# Altium footprint library ESC.PcbLib: 51 footprints (part 2 of 4)
Each footprint in its own frame and in the unit in brackets; x right, y up, seen from the top. Pads: shape width x height; smd on the part's side, far side on the other; paste and mask are expansions set on the pad; w line width, h text height; cw(c..) or ccw(c..) is an arc to the next point about the centre after c.
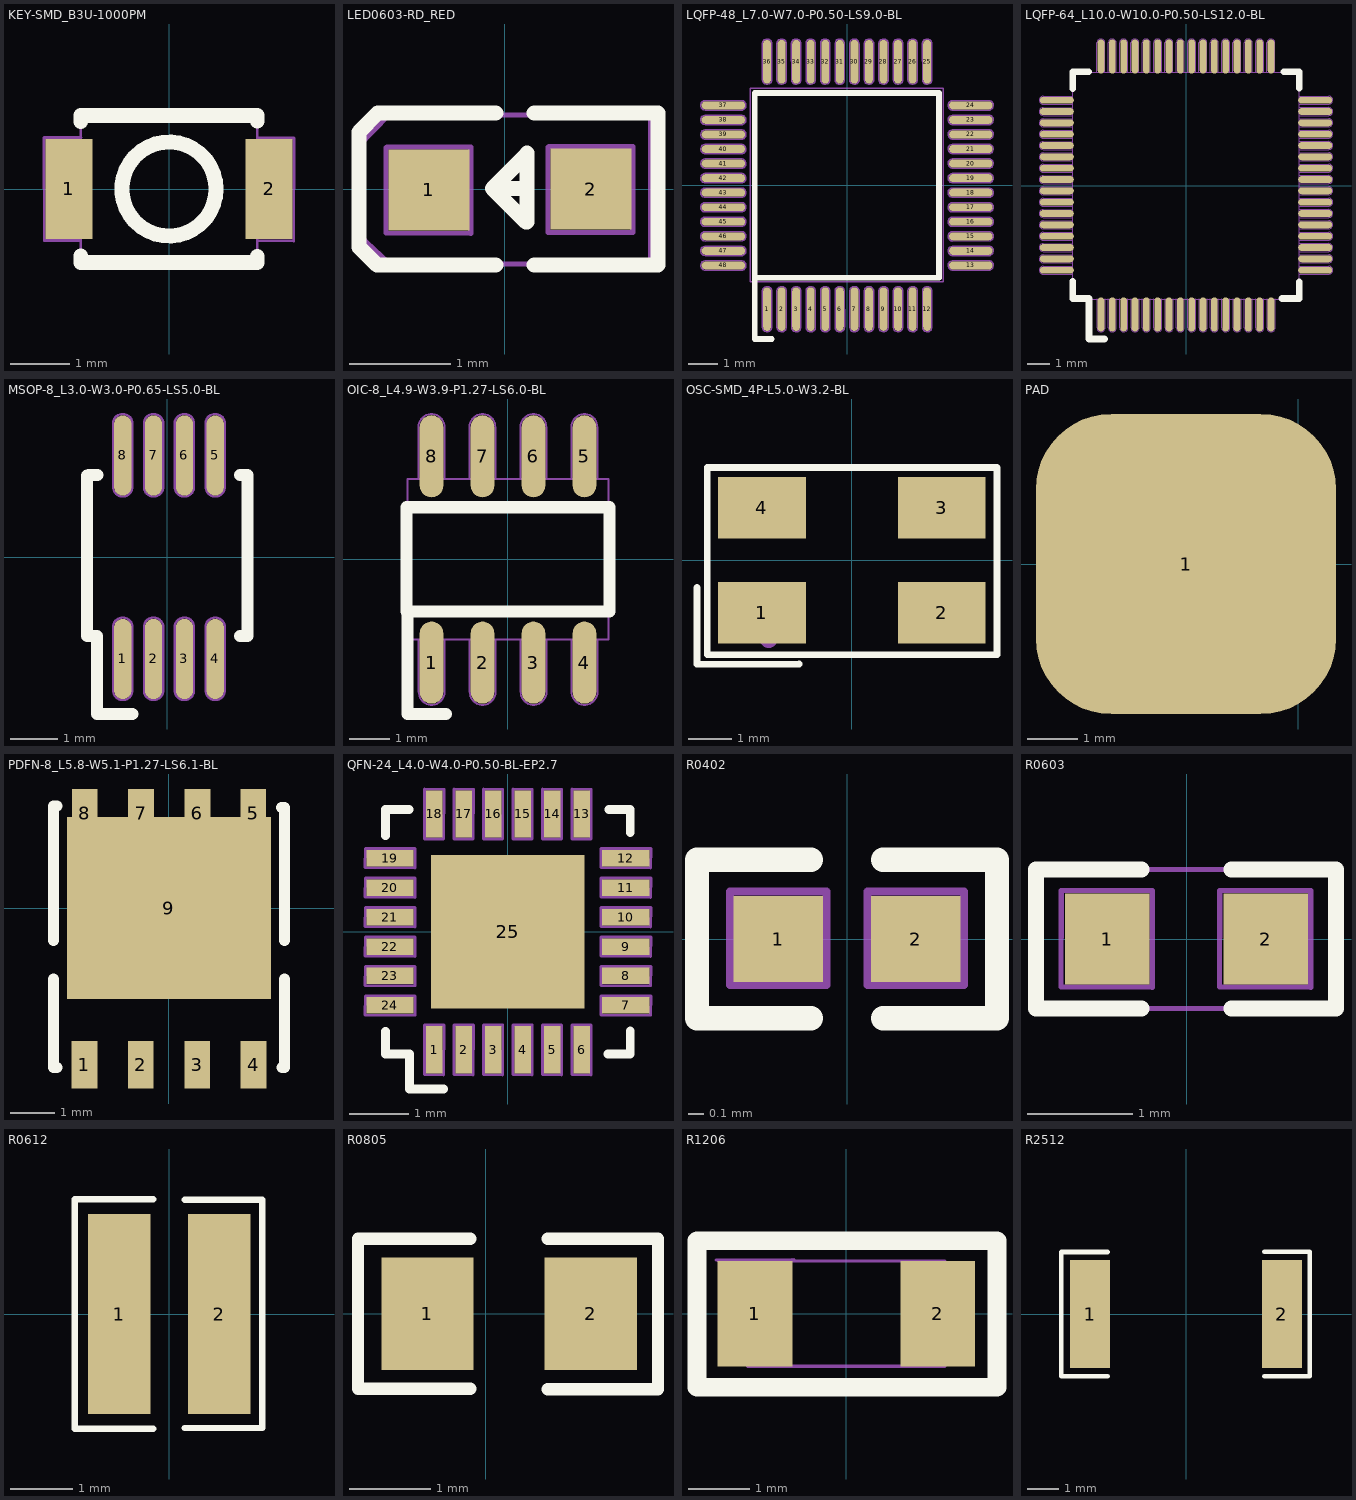
[diagram p1: the footprints below, top view; thin cyan lines are the x and y axes]

## KEY-SMD_B3U-1000PM [mm]
height 1.6
pads (2):
  rect 0.8x1.7 smd paste+0 mask+0.051: 1(-1.7,0) 2(1.7,0)
Top Overlay:
  circle w0.254: c0,0 r0.8
  lines w0.254: -1.5,-1.138 -1.5,-1.25 ; -1.5,1.151 -1.5,1.25 ; 1.5,-1.146 1.5,-1.25 ; 1.5,1.158 1.5,1.25 ; -1.5,-1.25 1.5,-1.25 ; -1.5,-1.25 1.5,-1.25 ; -1.5,1.25 1.5,1.25 ; -1.5,1.25 1.5,1.25
Mechanical 2:
  circle w0.05: c0,0 r0.762
  lines w0.05: -1.503,-0.877 -2.121,-0.872 -2.124,0.873 -1.492,0.873 ; 1.5,0.87 2.124,0.87 2.121,-0.884 1.507,-0.879 ; -1.5,-1.25 1.5,-1.25 1.5,1.081 1.5,1.25 -1.5,1.25 -1.5,-1.25
3D body "B3U-1000P--3DModel-STEP-56544.STEP": height 1.75, standoff 0, extent -2,-1.25 2,1.25

## LED0603-RD_RED [mm] "LED RED"
height 0.6
pads (2):
  rect 0.8x0.8 smd paste+0 mask+0.051: 1(-0.75,-0.009) 2(0.849,-0.002)
Top Overlay:
  lines w0.15: -0.09,-0.751 -1.263,-0.751 -1.44,-0.574 -1.44,-0.351 -1.44,0.349 -1.44,0.564 -1.255,0.749 -0.09,0.749 ; 0.209,-0.325 -0.121,0.005 ; 0.219,-0.325 0.219,0.355 ; 0.219,0.005 -0.121,0.005 ; 0.219,0.345 -0.121,0.005 ; 0.29,-0.749 1.512,-0.749 1.512,0.751 0.29,0.751
Mechanical 2:
  lines w0.05: -1.171,0.409 -1.171,-0.434 -0.336,-0.438 -0.336,0.413 -1.163,0.413 ; 0.428,0.416 0.428,-0.427 1.263,-0.431 1.263,0.42 0.436,0.42 ; -1.45,-0.447 -1.135,-0.74 1.437,-0.74 1.437,0.731 -1.146,0.731 -1.45,0.416 -1.45,-0.447
Mechanical 15:
  region: -1.02,0.056 -0.48,0.056 -0.48,-0.074 -1.02,-0.074
  region: 0.784,-0.272 0.784,0.268 0.914,0.268 0.914,-0.272
  region: 0.578,0.063 1.119,0.063 1.119,-0.067 0.578,-0.067
3D body "597-3326-607F.STEP": height 0.7, standoff 0, extent -0.701,-0.405 0.899,0.395

## LQFP-48_L7.0-W7.0-P0.50-LS9.0-BL [mm] "LQFP-48(7x7)"
pads (48):
  oval 0.27x1.5 smd paste+0 mask+0.05: 1(-2.75,-4.25) 2(-2.25,-4.25) 3(-1.75,-4.25) 4(-1.25,-4.25) 5(-0.75,-4.25) 6(-0.25,-4.25) 7(0.25,-4.25) 8(0.75,-4.25) 9(1.25,-4.25) 10(1.75,-4.25) 11(2.25,-4.25) 12(2.75,-4.25) 25(2.75,4.25) 26(2.25,4.25) 27(1.75,4.25) 28(1.25,4.25) 29(0.75,4.25) 30(0.25,4.25) 31(-0.25,4.25) 32(-0.75,4.25) 33(-1.25,4.25) 34(-1.75,4.25) 35(-2.25,4.25) 36(-2.75,4.25)
  oval 1.5x0.27 smd paste+0 mask+0.05: 13(4.25,-2.75) 14(4.25,-2.25) 15(4.25,-1.75) 16(4.25,-1.25) 17(4.25,-0.75) 18(4.25,-0.25) 19(4.25,0.25) 20(4.25,0.75) 21(4.25,1.25) 22(4.25,1.75) 23(4.25,2.25) 24(4.25,2.75) 37(-4.25,2.75) 38(-4.25,2.25) 39(-4.25,1.75) 40(-4.25,1.25) 41(-4.25,0.75) 42(-4.25,0.25) 43(-4.25,-0.25) 44(-4.25,-0.75) 45(-4.25,-1.25) 46(-4.25,-1.75) 47(-4.25,-2.25) 48(-4.25,-2.75)
Top Overlay:
  lines w0.2: -2.589,-5.277 -3.175,-5.277 -3.175,-3.175 ; -3.175,-3.175 -3.175,3.175 3.16,3.175 3.16,-3.175 -3.175,-3.175
Mechanical 2:
  drawing of 196 lines, arcs and shapes, not listed
3D body "lqfp48_7x7_p050.stp": height 1.6, standoff 0, extent -4.472,-4.51 4.528,4.49

## LQFP-64_L10.0-W10.0-P0.50-LS12.0-BL [mm] "LQFP-64(10x10)"
height 1.6
pads (64):
  oval 0.3x1.5 smd paste+0 mask+0.05: 1(-3.75,-5.678) 2(-3.25,-5.678) 3(-2.75,-5.678) 4(-2.25,-5.678) 5(-1.75,-5.678) 6(-1.25,-5.678) 7(-0.75,-5.678) 8(-0.25,-5.678) 9(0.25,-5.678) 10(0.75,-5.678) 11(1.25,-5.678) 12(1.75,-5.678) 13(2.25,-5.678) 14(2.75,-5.678) 15(3.25,-5.678) 16(3.75,-5.678) 33(3.75,5.698) 34(3.25,5.698) 35(2.75,5.698) 36(2.25,5.698) 37(1.75,5.698) 38(1.25,5.698) 39(0.75,5.698) 40(0.25,5.698) 41(-0.25,5.698) 42(-0.75,5.698) 43(-1.25,5.698) 44(-1.75,5.698) 45(-2.25,5.698) 46(-2.75,5.698) 47(-3.25,5.698) 48(-3.75,5.698)
  oval 1.5x0.3 smd paste+0 mask+0.05: 17(5.7,-3.728) 18(5.7,-3.228) 19(5.7,-2.728) 20(5.7,-2.228) 21(5.7,-1.728) 22(5.7,-1.228) 23(5.7,-0.728) 24(5.7,-0.228) 25(5.7,0.272) 26(5.7,0.772) 27(5.7,1.272) 28(5.7,1.772) 29(5.7,2.272) 30(5.7,2.772) 31(5.7,3.272) 32(5.7,3.772) 49(-5.7,3.772) 50(-5.7,3.272) 51(-5.7,2.772) 52(-5.7,2.272) 53(-5.7,1.772) 54(-5.7,1.272) 55(-5.7,0.772) 56(-5.7,0.272) 57(-5.7,-0.228) 58(-5.7,-0.728) 59(-5.7,-1.228) 60(-5.7,-1.728) 61(-5.7,-2.228) 62(-5.7,-2.728) 63(-5.7,-3.228) 64(-5.7,-3.728)
Top Overlay:
  lines w0.3: -5,4.277 -5,5.022 -4.29,5.022 ; -4.296,-4.978 -5,-4.978 -5,-4.22 ; -4.285,-4.978 -4.285,-6.763 -3.6,-6.763 ; 4.232,-4.978 5,-4.978 5,-4.252 ; 4.327,5.022 5,5.022 5,4.31 ; -5,-4.22 -5,-4.22
Mechanical 2:
  drawing of 196 lines, arcs and shapes, not listed
3D body "LQFP64-10x10mm.step": height 1.6, standoff 0, extent -5.979,-6.005 6.015,5.989

## MSOP-8_L3.0-W3.0-P0.65-LS5.0-BL [mm] "MSOP-8"
pads (8):
  oval 0.364x1.692 smd paste+0 mask+0.05: 1(-0.939,-2.142) 2(-0.289,-2.142) 3(0.361,-2.142) 4(1.011,-2.142) 5(1.011,2.15) 6(0.361,2.15) 7(-0.289,2.15) 8(-0.939,2.15)
Top Overlay:
  lines w0.254: -1.694,1.728 -1.694,-1.648 -1.688,-1.654 -1.483,-1.654 -1.483,-3.302 -0.739,-3.302 -0.762,-3.302 ; -1.681,1.715 -1.661,1.735 -1.469,1.735 ; 1.532,1.733 1.694,1.733 1.694,-1.654 1.536,-1.654
Mechanical 2:
  lines w0.05: -1.694,1.728 -1.694,-1.648 -1.688,-1.654 -1.483,-1.654 ; -1.681,1.715 -1.661,1.735 -1.469,1.735 ; 1.532,1.733 1.694,1.733 1.694,-1.654 1.536,-1.654 ; -1.141,-2.829 ccw(c-0.94,-2.806) -0.739,-2.83 -0.739,-1.433 ccw(c-0.94,-1.474) -1.141,-1.432 -1.141,-2.829 ; -1.141,1.463 ccw(c-0.94,1.486) -0.739,1.462 -0.739,2.859 ccw(c-0.94,2.818) -1.141,2.86 -1.141,1.463 ; -0.491,-2.829 ccw(c-0.29,-2.806) -0.089,-2.83 -0.089,-1.433 ccw(c-0.29,-1.474) -0.491,-1.432 -0.491,-2.829 ; -0.491,1.463 ccw(c-0.29,1.486) -0.089,1.462 -0.089,2.859 ccw(c-0.29,2.818) -0.491,2.86 -0.491,1.463 ; 0.159,-2.829 ccw(c0.36,-2.806) 0.561,-2.83 0.561,-1.433 ccw(c0.36,-1.474) 0.159,-1.432 0.159,-2.829 ; 0.159,1.463 ccw(c0.36,1.486) 0.561,1.462 0.561,2.859 ccw(c0.36,2.818) 0.159,2.86 0.159,1.463 ; 0.809,-2.829 ccw(c1.01,-2.806) 1.211,-2.83 1.211,-1.433 ccw(c1.01,-1.474) 0.809,-1.432 0.809,-2.829 ; 0.809,1.463 ccw(c1.01,1.486) 1.211,1.462 1.211,2.859 ccw(c1.01,2.818) 0.809,2.86 0.809,1.463
3D body "msop-8.SLDPRT": height 1.15, standoff 0, extent -1.5,-2.45 1.5,2.45

## OIC-8_L4.9-W3.9-P1.27-LS6.0-BL [mm] "SOIC-8-150mil"
height 1.75
pads (8):
  oval 0.588x2.045 smd paste+0 mask+0.05: 1(-1.905,-2.57) 2(-0.635,-2.57) 3(0.635,-2.57) 4(1.905,-2.57) 5(1.905,2.57) 6(0.635,2.57) 7(-0.635,2.57) 8(-1.905,2.57)
Top Overlay:
  lines w0.3: -2.5,-1.3 -2.5,-3.85 -1.55,-3.85 ; -2.526,-1.3 2.526,-1.3 2.526,1.3 -2.526,1.3 -2.526,-1.3
Mechanical 2:
  lines w0.05: -2.226,2.004 -2.226,3.296 ; -2.227,3.291 cw(c-1.906,3.303) -1.585,3.29 ; -2.225,-3.29 ccw(c-1.904,-3.303) -1.583,-3.291 ; -2.224,-3.298 -2.224,-2.005 ; -1.586,2.005 -1.586,3.298 ; -1.584,-3.296 -1.584,-2.004 ; -0.956,2.004 -0.956,3.296 ; -0.957,3.291 cw(c-0.636,3.303) -0.315,3.29 ; -0.955,-3.29 ccw(c-0.634,-3.303) -0.313,-3.291 ; -0.954,-3.298 -0.954,-2.005 ; -0.316,2.005 -0.316,3.298 ; -0.314,-3.296 -0.314,-2.004 ; 0.314,2.004 0.314,3.296 ; 0.313,3.291 cw(c0.634,3.303) 0.955,3.29 ; 0.315,-3.29 ccw(c0.636,-3.303) 0.957,-3.291 ; 0.316,-3.298 0.316,-2.005 ; 0.954,2.005 0.954,3.298 ; 0.956,-3.296 0.956,-2.004 ; 1.584,2.004 1.584,3.296 ; 1.583,3.291 cw(c1.904,3.303) 2.225,3.29 ; 1.585,-3.29 ccw(c1.906,-3.303) 2.227,-3.291 ; 1.586,-3.298 1.586,-2.005 ; 2.224,2.005 2.224,3.298 ; 2.226,-3.296 2.226,-2.004 ; -2.5,-2 2.5,-2 2.5,2 -2.5,2 -2.5,-2
3D body "SO8_SOT96-1_NXP.step": height 1.76, standoff 0, extent -2.502,-3.099 2.502,3.099

## OSC-SMD_4P-L5.0-W3.2-BL [mm]
height 0.025
pads (4):
  rect 2x1.4 smd paste+0 mask+0.051: 1(-2.05,-1.2) 2(2.05,-1.2) 3(2.05,1.2) 4(-2.05,1.2)
Top Overlay:
  lines w0.152: -3.531,-0.623 -3.531,-2.373 -1.199,-2.369 ; -3.294,-2.155 -3.294,2.115 3.312,2.115 3.312,-2.155 -3.294,-2.155
Mechanical 15:
  circle w0.2: c-1.9,-1.8 r0.1
3D body: height 1.1, standoff 0, extent -2.634,-1.679 2.466,1.621

## PAD [mm]
height 0.025
pads (1):
  rrect50% 6x6 smd mask+0.05: 1(-2.244,0)

## PDFN-8_L5.8-W5.1-P1.27-LS6.1-BL [mm] "PDFN5x6-8L"
pads (9):
  rect 0.58x1.079 smd paste+0 mask+0.05: 1(-1.905,-3.53) 2(-0.635,-3.53) 3(0.635,-3.53) 4(1.905,-3.53)
  rect 0.58x1.08 smd paste+0 mask+0.05: 5(1.9,2.14) 6(0.64,2.14) 7(-0.63,2.14) 8(-1.9,2.14)
  rect 4.6x4.1 smd paste+0 mask+0.05: 9(0,0)
Top Overlay:
  lines w0.25: -2.6,-1.592 -2.6,-3.59 -2.525,-3.59 ; -2.6,-0.727 -2.6,2.301 -2.524,2.301 ; 2.537,2.271 2.6,2.271 2.6,-0.727 ; 2.543,-3.59 2.6,-3.59 2.6,-1.592
Top Paste:
  region: -2.2,-2.985 -1.61,-2.985 -1.61,-4.075 -2.2,-4.075
  region: -0.93,-2.985 -0.34,-2.985 -0.34,-4.075 -0.93,-4.075
  region: 0.34,-2.985 0.93,-2.985 0.93,-4.075 0.34,-4.075
  region: 1.61,-2.985 2.2,-2.985 2.2,-4.075 1.61,-4.075
  region: 2.3,-2.045 2.3,2.055 2.19,2.055 2.19,2.685 1.61,2.685 1.61,2.055 0.93,2.055 0.93,2.675 0.35,2.675 0.35,2.055 -0.34,2.055 -0.34,2.675 -0.92,2.675 -0.92,2.055 -1.61,2.055 -1.61,2.675 -2.19,2.675 -2.19,2.055 -2.3,2.055 -2.3,-2.055
3D body "User Library-pdfn5x6.step": height 1.02, standoff 0, extent -2.518,-3.549 2.482,2.451

## QFN-24_L4.0-W4.0-P0.50-BL-EP2.7 [mm] "QFN-24"
pads (25):
  rect 0.28x0.8 smd paste+0 mask+0.05: 1(-1.25,-2) 2(-0.75,-2) 3(-0.25,-2) 4(0.25,-2) 5(0.75,-2) 6(1.25,-2) 13(1.25,2) 14(0.75,2) 15(0.25,2) 16(-0.25,2) 17(-0.75,2) 18(-1.25,2)
  rect 0.8x0.28 smd paste+0 mask+0.05: 7(2,-1.25) 8(2,-0.75) 9(2,-0.25) 10(2,0.25) 11(2,0.75) 12(2,1.25) 19(-2,1.25) 20(-2,0.75) 21(-2,0.25) 22(-2,-0.25) 23(-2,-0.75) 24(-2,-1.25)
  rect 2.6x2.6 smd paste+0 mask+0.05: 25(0,0)
Top Overlay:
  lines w0.152: -2.076,-1.691 -2.076,-2.076 -1.667,-2.076 -1.667,-2.667 -1.09,-2.667 ; -2.076,1.629 -2.076,2.076 -1.679,2.076 ; 1.696,-2.076 2.076,-2.076 2.076,-1.68 ; 1.716,2.076 2.076,2.076 2.076,1.68
Mechanical 2:
  lines w0.05: -2.076,-1.691 -2.076,-2.076 -1.667,-2.076 ; -2.076,1.629 -2.076,2.076 -1.679,2.076 ; 1.696,-2.076 2.076,-2.076 2.076,-1.68 ; 1.716,2.076 2.076,2.076 2.076,1.68 ; -2.422,-1.412 -1.577,-1.416 -1.573,-1.09 -2.418,-1.086 -2.422,-1.412 ; -2.422,-0.912 -1.577,-0.916 -1.573,-0.59 -2.418,-0.586 -2.422,-0.912 ; -2.422,-0.412 -1.577,-0.416 -1.573,-0.09 -2.418,-0.086 -2.422,-0.412 ; -2.422,0.088 -1.577,0.084 -1.573,0.41 -2.418,0.414 -2.422,0.088 ; -2.422,0.588 -1.577,0.584 -1.573,0.91 -2.418,0.914 -2.422,0.588 ; -2.422,1.088 -1.577,1.084 -1.573,1.41 -2.418,1.414 -2.422,1.088 ; -1.416,-2.423 -1.412,-1.578 -1.086,-1.582 -1.09,-2.427 -1.416,-2.423 ; -1.416,1.577 -1.412,2.422 -1.086,2.418 -1.09,1.573 -1.416,1.577 ; -0.916,-2.423 -0.912,-1.578 -0.586,-1.582 -0.59,-2.427 -0.916,-2.423 ; -0.916,1.577 -0.912,2.422 -0.586,2.418 -0.59,1.573 -0.916,1.577 ; -0.416,-2.423 -0.412,-1.578 -0.086,-1.582 -0.09,-2.427 -0.416,-2.423 ; -0.416,1.577 -0.412,2.422 -0.086,2.418 -0.09,1.573 -0.416,1.577 ; 0.084,-2.423 0.088,-1.578 0.414,-1.582 0.41,-2.427 0.084,-2.423 ; 0.084,1.577 0.088,2.422 0.414,2.418 0.41,1.573 0.084,1.577 ; 0.584,-2.423 0.588,-1.578 0.914,-1.582 0.91,-2.427 0.584,-2.423 ; 0.584,1.577 0.588,2.422 0.914,2.418 0.91,1.573 0.584,1.577 ; 1.084,-2.423 1.088,-1.578 1.414,-1.582 1.41,-2.427 1.084,-2.423 ; 1.084,1.577 1.088,2.422 1.414,2.418 1.41,1.573 1.084,1.577 ; 1.578,-1.412 2.423,-1.416 2.427,-1.09 1.582,-1.086 1.578,-1.412 ; 1.578,-0.912 2.423,-0.916 2.427,-0.59 1.582,-0.586 1.578,-0.912 ; 1.578,-0.412 2.423,-0.416 2.427,-0.09 1.582,-0.086 1.578,-0.412 ; 1.578,0.088 2.423,0.084 2.427,0.41 1.582,0.414 1.578,0.088 ; 1.578,0.588 2.423,0.584 2.427,0.91 1.582,0.914 1.578,0.588 ; 1.578,1.088 2.423,1.084 2.427,1.41 1.582,1.414 1.578,1.088
3D body "LAN8742A (SQFN-24 EP 4x4).STEP": height 0.81, standoff -0.02, extent -2.015,-2.015 2.015,2.015

## R0402 [mm] "0402"
pads (2):
  rect 0.566x0.54 smd paste-100 mask+0.051: 1(-0.433,0) 2(0.433,0)
Top Overlay:
  lines w0.152: -0.226,-0.499 -0.944,-0.499 -0.944,0.499 -0.226,0.499 ; 0.226,-0.499 0.944,-0.499 0.944,0.499 0.226,0.499
Top Paste:
  region: -0.135,-0.23 -0.135,0.23 -0.175,0.27 -0.676,0.27 -0.716,0.23 -0.716,-0.23 -0.676,-0.27 -0.175,-0.27
  region: 0.135,-0.23 0.135,0.23 0.175,0.27 0.676,0.27 0.716,0.23 0.716,-0.23 0.676,-0.27 0.175,-0.27
Mechanical 2:
  lines w0.05: -0.226,-0.499 -0.944,-0.499 -0.944,0.499 -0.226,0.499 ; 0.226,-0.499 0.944,-0.499 0.944,0.499 0.226,0.499 ; -0.738,-0.29 -0.128,-0.29 -0.128,0.298 -0.738,0.298 -0.738,-0.29 ; 0.128,-0.29 0.738,-0.29 0.738,0.298 0.128,0.298 0.128,-0.29
3D body "YAG_R0402_YAG.step": height 0.41, standoff 0, extent -0.54,-0.275 0.526,0.283

## R0603 [mm] "Resister pakage 0603"
height 0.55
pads (2):
  rect 0.806x0.864 smd paste-100 mask+0.051: 1(-0.753,0) 2(0.753,0)
Top Overlay:
  lines w0.152: -0.426,-0.661 -1.43,-0.661 -1.43,0.661 -0.426,0.661 ; 0.426,-0.661 1.42,-0.661 1.42,0.661 0.426,0.661
Top Paste:
  region: 1.195,0.45 0.395,0.45 0.345,0.4 0.345,0.172 0.715,0.172 0.715,-0.158 0.345,-0.158 0.345,-0.4 0.395,-0.45 1.195,-0.45 1.245,-0.4 1.245,0.4
  region: -1.195,-0.45 -0.395,-0.45 -0.345,-0.4 -0.345,-0.172 -0.715,-0.172 -0.715,0.158 -0.345,0.158 -0.345,0.4 -0.395,0.45 -1.195,0.45 -1.245,0.4 -1.245,-0.4
Mechanical 2:
  lines w0.05: -1.385,-0.661 -1.385,0.661 -0.426,0.661 0.426,0.661 1.385,0.661 1.385,-0.661 0.426,-0.661 -0.426,-0.661 -1.385,-0.661 ; -1.193,-0.456 -0.326,-0.46 -0.326,0.461 -1.19,0.461 -1.193,-0.456 ; 0.313,-0.456 1.181,-0.46 1.181,0.461 0.317,0.461 0.313,-0.456
3D body "CircuitWorks-RESISTOR 0603.step": height 0.48, standoff -0.03, extent -0.798,-0.43 0.802,0.43

## R0612 [mm]
pads (2):
  rect 1x3.2 smd paste+0 mask+0.051: 1(-0.8,0) 2(0.8,0)
Top Overlay:
  lines w0.102: -0.25,-1.836 -1.508,-1.836 -1.508,1.839 -0.25,1.839 ; 0.25,-1.824 1.49,-1.824 1.49,1.831 0.25,1.831
3D body "THJP0612A.stp": height 0.76, standoff 0, extent -0.857,-1.589 0.744,1.612

## R0805 [mm] "0805"
pads (2):
  rect 1.133x1.377 smd paste-100 mask+0.051: 1(-0.712,0) 2(1.288,0)
Top Overlay:
  lines w0.152: -0.188,-0.917 -1.564,-0.917 -1.564,0.917 -0.188,0.917 ; 0.764,-0.923 2.113,-0.923 2.113,0.917 0.764,0.917
Top Paste:
  region: -1.412,-0.64 -1.412,0.64 -1.362,0.69 -0.212,0.69 -0.162,0.64 -0.157,0.23 -0.607,0.23 -0.607,-0.22 -0.167,-0.22 -0.162,-0.64 -0.212,-0.69 -1.362,-0.69
  region: 0.738,-0.64 0.738,-0.22 1.183,-0.22 1.183,0.23 0.743,0.23 0.738,0.64 0.788,0.69 1.938,0.69 1.988,0.64 1.988,-0.64 1.938,-0.69 0.788,-0.69
3D body "User Library-R0805-2.step": height 0.55, standoff 0, extent -0.9,-0.62 1.5,0.63

## R1206 [mm] "package 1206"
height 0.65
pads (2):
  rect 1.208x1.701 smd paste-100 mask+0.051: 1(-1.479,0) 2(1.479,0)
Top Overlay:
  lines w0.3: 0.84,-1.19 0.84,-1.19 ; 0.84,-1.19 2.439,-1.19 2.439,1.18 0.85,1.18 0.85,1.181 -1.053,1.181 -2.417,1.181 -2.417,-1.19 -1.062,-1.19 0.84,-1.19
Top Paste:
  region: 0.875,-0.75 0.875,-0.389 0.975,-0.289 1.186,-0.289 1.286,-0.189 1.286,0.189 1.186,0.289 0.975,0.289 0.875,0.389 0.875,0.75 0.975,0.85 1.983,0.85 2.083,0.75 2.083,-0.75 1.983,-0.85 0.975,-0.85
  region: -0.875,-0.75 -0.875,-0.389 -0.975,-0.289 -1.186,-0.289 -1.286,-0.189 -1.286,0.189 -1.186,0.289 -0.975,0.289 -0.875,0.389 -0.875,0.75 -0.975,0.85 -1.983,0.85 -2.083,0.75 -2.083,-0.75 -1.983,-0.85 -0.975,-0.85
Mechanical 2:
  lines w0.05: -2.11,0.87 -0.849,0.88 ; -2.085,0.858 -0.878,0.873 ; -1.6,-0.85 -1.6,0.85 1.6,0.85 1.6,-0.85 -1.6,-0.85
3D body "RC1206JR-0713RL.STEP": height 0.65, standoff 0, extent -1.55,-0.8 1.55,0.8

## R2512 [mm] "R2512"
height 0.025
pads (2):
  rect 1.283x3.456 smd paste-100 mask+0.051: 1(-3.066,0) 2(3.066,0)
Top Overlay:
  lines w0.152: -2.501,-1.986 -3.989,-1.986 -3.989,1.983 -2.501,1.983 ; 2.501,-1.986 3.956,-1.986 3.956,1.988 2.501,1.988
Top Paste:
  region: 2.425,-1.628 2.425,-0.688 2.525,-0.588 2.761,-0.588 2.861,-0.488 2.861,0.488 2.761,0.588 2.525,0.588 2.425,0.688 2.425,1.628 2.525,1.728 3.608,1.728 3.708,1.628 3.708,-1.628 3.608,-1.728 2.525,-1.728
  region: -2.425,-1.628 -2.425,-0.688 -2.525,-0.588 -2.761,-0.588 -2.861,-0.488 -2.861,0.488 -2.761,0.588 -2.525,0.588 -2.425,0.688 -2.425,1.628 -2.525,1.728 -3.608,1.728 -3.708,1.628 -3.708,-1.628 -3.608,-1.728 -2.525,-1.728
3D body "User Library-R2512-1.step": height 0.55, standoff 0, extent -3.35,-1.6 3.35,1.6